# EAGLE library part 2-AXIS-JOYSTICK (library Joystick_2-Axis)
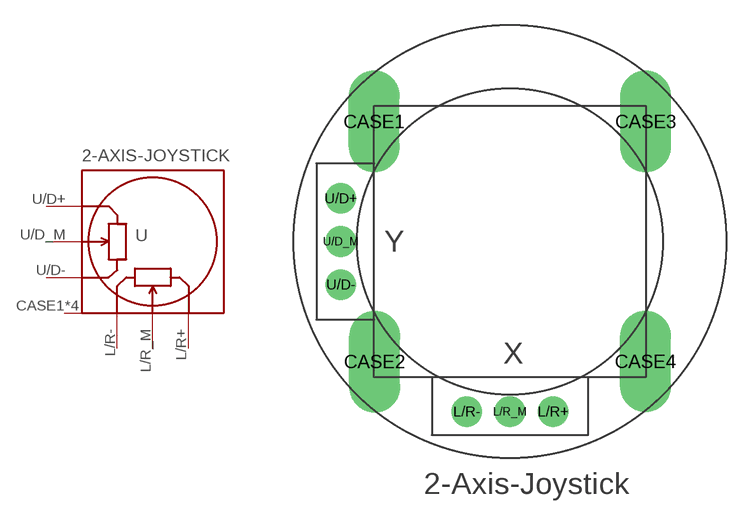
[diagram p0: symbol with the pads of 2-AXIS-JOYSTICK; footprint 2-AXIS-JOYSTICK]

Designator prefix -

## 2-AXIS-JOYSTICK  [2-AXIS-JOYSTICK]
CASE1  GND  pwr
CASE2  GND  pwr
CASE3  GND  pwr
CASE4  GND  pwr
L/R+  L/R+
L/R-  L/R-
L/R_M  L/R_M
U/D+  U/D+
U/D-  U/D-
U/D_M  U/D_M

## Footprint 2-AXIS-JOYSTICK (pad centres in mm)
drill 2 long: CASE1 -8.008,7.077; CASE2 -7.978,-7.077; CASE3 8.008,7.077; CASE4 7.987,-7.067
drill 1.2: L/R+ 2.54,-10.03; L/R- -2.54,-10.03; L/R_M 0,-10.03; U/D+ -9.97,2.54; U/D- -9.97,-2.54; U/D_M -9.97,0